# Altium integrated library ECS-TXO-2016-33-120-TR(1).IntLib: 1 symbol
Pins are listed as number, name and electrical type; pins without a type are passive.

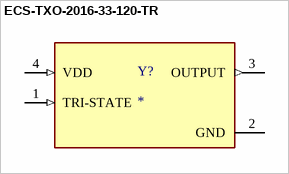
[diagram p0: symbol ECS-TXO-2016-33-120-TR]

## ECS-TXO-2016-33-120-TR
designator Y?
MP: ECS-TXO-2016-33-120-TR; Package: None; Price: None; Value: *; Availability: Unavailable
footprint OSC_ECS-TXO-2016-33-120-TR
pins: 1 TRI-STATE (in), 2 GND (power), 3 OUTPUT (out), 4 VDD (in)